# EAGLE library part BM04B-ACHFKS-GACN-ETF_LF__SN_ (library BM04B-ACHFKS-GACN-ETF_LF__SN_)
CONN HEADER SMD R/A 4POS 1.2MM Source: Datasheet <https://datasheet.datasheetarchive.com/originals/dk/DKDS-13/256979.pdf>
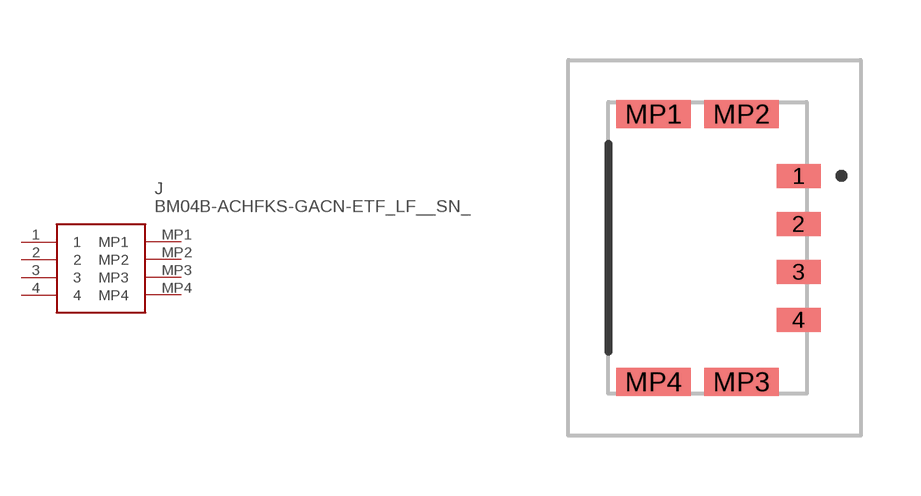
[diagram p0: symbol with the pads of BM04BACHFKSGACNETFLFSN; footprint BM04BACHFKSGACNETFLFSN]

Designator prefix J

## BM04B-ACHFKS-GACN-ETF_LF__SN_ (Description: CONN HEADER SMD R/A 4POS 1.2MM; Height: 1.43mm; Manufacturer_Name: JST (JAPAN SOLDERLESS TERMINALS); Manufacturer_Part_Number: BM04B-ACHFKS-GACN-ETF(LF)(SN))  [BM04BACHFKSGACNETFLFSN]
1  1
2  2
3  3
4  4
MP1  MP1
MP2  MP2
MP3  MP3
MP4  MP4

## Footprint BM04BACHFKSGACNETFLFSN (pad centres in mm)
BM04B-ACHFKS-GACN-ETF(LF)(SN)-2
smd 1.1 x 0.6: 1 2.275,1.8; 2 2.275,0.6; 3 2.275,-0.6; 4 2.275,-1.8
smd 1.85 x 0.7: MP1 -1.35,3.35; MP2 0.85,3.35; MP3 0.85,-3.35; MP4 -1.35,-3.35